# Altium footprint library descret_pcb.PcbLib: 152 footprints (part 10 of 10)
Each footprint in its own frame and in the unit in brackets; x right, y up, seen from the top. Pads: shape width x height; smd on the part's side, far side on the other; paste and mask are expansions set on the pad; w line width, h text height; cw(c..) or ccw(c..) is an arc to the next point about the centre after c.
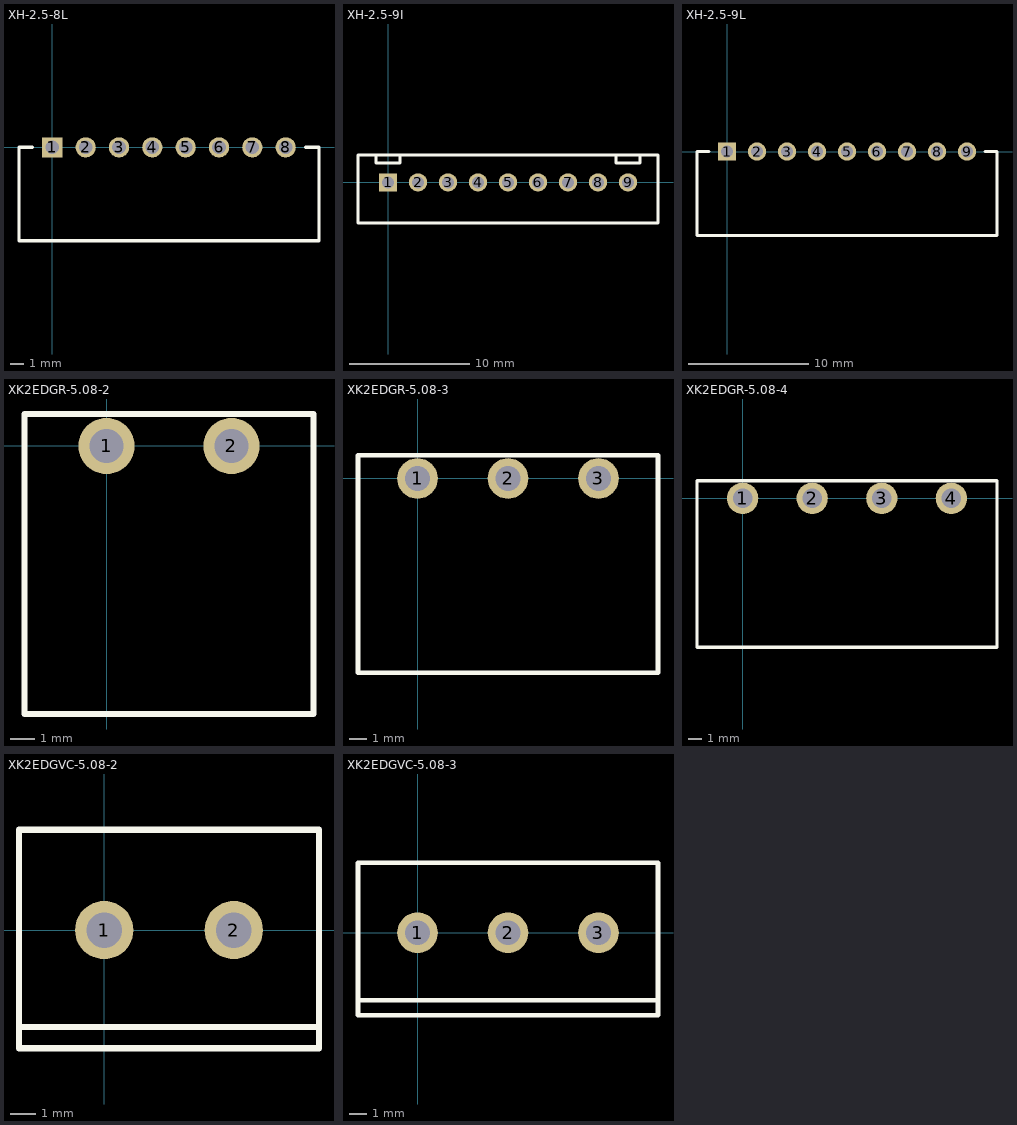
[diagram p9: the footprints below, top view; thin cyan lines are the x and y axes]

## XH-2.5-8L [mil]
pads (8):
  rect 60x60 hole 40: 1(0,0)
  round 60 hole 40: 2(98.43,0) 3(196.85,0) 4(295.28,0) 5(393.7,0) 6(492.13,0) 7(590.55,0) 8(688.98,0)
TopOverlay:
  lines w10: -59.06,0 -98.43,0 -98.43,-275.59 787.4,-275.59 787.4,0 748.03,0

## XH-2.5-9I [mil]
pads (9):
  rect 60x60 hole 40: 1(0,0)
  round 60 hole 40: 2(98.43,0) 3(196.85,0) 4(295.28,0) 5(393.7,0) 6(492.13,0) 7(590.55,0) 8(688.98,0) 9(787.4,0)
TopOverlay:
  lines w10: -39.37,90.55 -39.37,62.99 39.37,62.99 39.37,90.55 ; 748.03,90.55 748.03,62.99 826.77,62.99 826.77,90.55 ; -98.43,-133.86 885.83,-133.86 885.83,90.55 -98.43,90.55 -98.43,-133.86

## XH-2.5-9L [mil]
pads (9):
  rect 60x60 hole 40: 1(0,0)
  round 60 hole 40: 2(98.43,0) 3(196.85,0) 4(295.28,0) 5(393.7,0) 6(492.13,0) 7(590.55,0) 8(688.98,0) 9(787.4,0)
TopOverlay:
  lines w10: -59.06,0 -98.43,0 -98.43,-275.59 885.83,-275.59 885.83,0 846.46,0

## XK2EDGR-5.08-2 [mil]
pads (2):
  round 90 hole 55: 1(0,0) 2(200,0)
TopOverlay:
  lines w10: -131.5,-429.13 -131.5,51.18 331.5,51.18 331.5,-429.13 -131.5,-429.13

## XK2EDGR-5.08-3 [mil]
pads (3):
  round 90 hole 55: 1(0,0) 2(200,0) 3(400,0)
TopOverlay:
  lines w10: -131.5,-429.13 531.5,-429.13 531.5,51.18 -131.5,51.18 -131.5,-429.13

## XK2EDGR-5.08-4 [mil]
pads (4):
  round 90 hole 55: 1(0,0) 2(200,0) 3(400,0) 4(600,0)
TopOverlay:
  lines w10: -131.5,-429.13 731.5,-429.13 731.5,51.18 -131.5,51.18 -131.5,-429.13

## XK2EDGVC-5.08-2 [mil]
pads (2):
  round 90 hole 55: 1(0,0) 2(200,0)
TopOverlay:
  lines w10: -131.5,-149.61 331.5,-149.61 ; -131.5,-182.68 331.5,-182.68 331.5,155.12 -131.5,155.12 -131.5,-182.68

## XK2EDGVC-5.08-3 [mil]
pads (3):
  round 90 hole 55: 1(0,0) 2(200,0) 3(400,0)
TopOverlay:
  lines w10: -131.5,-149.61 531.5,-149.61 ; -131.5,-182.68 531.5,-182.68 531.5,155.12 -131.5,155.12 -131.5,-182.68